# EAGLE library part SD-HOLDER (library zz-upenn 2)
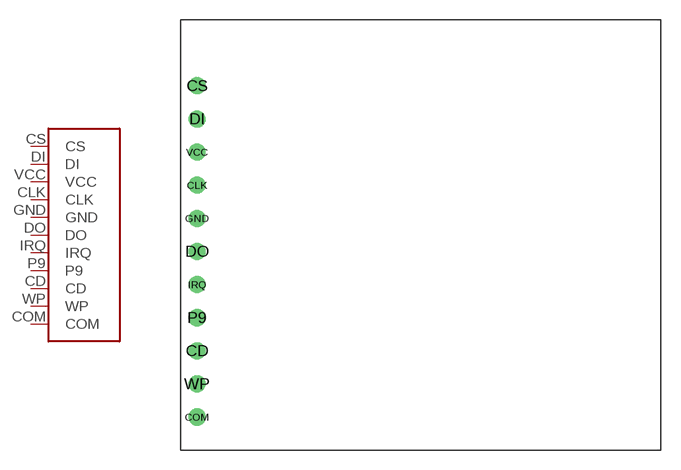
[diagram p22: symbol with the pads of SD-HOLDER; footprint SD-HOLDER]

Designator prefix -

## SD-HOLDER  [SD-HOLDER]
CD  CD
CLK  CLK
COM  COM
CS  CS
DI  DI
DO  DO
GND  GND
IRQ  IRQ
P9  P9
VCC  VCC
WP  WP

## Footprint SD-HOLDER (pad centres in mm)
drill 0.8: CD 0,-20.32; CLK 0,-7.62; COM 0,-25.4; CS 0,0; DI 0,-2.54; DO 0,-12.7; GND 0,-10.16; IRQ 0,-15.24; P9 0,-17.78; VCC 0,-5.08; WP 0,-22.86